# Altium integrated library Inductor.IntLib: 21 symbols
Pins are listed as number, name and electrical type; pins without a type are passive.

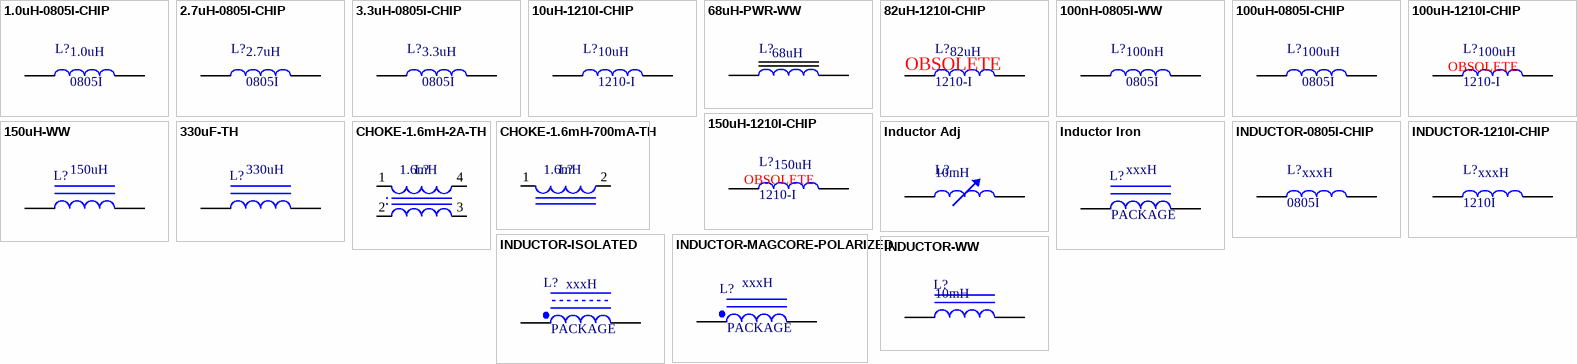
[diagram p0: symbols 1.0uH-0805I-CHIP to INDUCTOR-WW]

## 1.0uH-0805I-CHIP
designator L?, comment value 1.0uH  Package Reference: 0805I  (hidden comment: SMT Inductor, 0805 Size, 1.0uH)
Chip Inductor, 0805, 1.0uH, 10%; Manufacturer: TDK Corporation; Part Number: MLF2012A1R0KT000; DC Resistance (Max): 0.300; Q: 45 @ 10 MHz; Self Resonant Frequency: 120MHz; Core: Ferrite; Shielding: Shielded; PackageDescription: Chip inductor, SMT, 0805 size; Supplier 1: Digi-Key; Supplier Part Number 1: 445-1047-1-ND; Supplier 2: Mouser; Supplier Part Number 2: 810-MLF2012A1R0KT000
footprint 0805-I (Chip Inductor, 2-Leads, Size: 0805 (2012 Metric) Body 2.00x1.25mm, IPC Medium Density)
simulation model INDUCTOR (Inductor)
signal-integrity model Inductor
3D model 0805-I-CHIP (PCB3D Model)
pins: 1, 2

## 2.7uH-0805I-CHIP
designator L?, comment value 2.7uH  Package Reference: 0805I  (hidden comment: SMT Inductor, 0805 Size, 2.7uH)
Chip Inductor, 0805, 2.7uH, 10%; Manufacturer: TDK Corporation; Part Number: MLF2012A2R7KT000; DC Resistance (Max): 550 mOhm; Q: 45 @ 10MHz; Self Resonant Frequency: 70MHz; Core: Ferrite; Shielding: Shielded; PackageDescription: Chip Inductor, 2-Leads, Size: 0805 (2012 Metric) Body 2.00x1.25mm, IPC Medium Density; Supplier 1: Mouser; Supplier 2: Digi-Key; Supplier Part Number 1: 810-MLF2012A2R7KTD25; Supplier Part Number 2: 445-1052-1-ND
footprint 0805-I (Chip Inductor, 2-Leads, Size: 0805 (2012 Metric) Body 2.00x1.25mm, IPC Medium Density)
simulation model INDUCTOR (Inductor)
signal-integrity model Inductor
3D model 0805-I-CHIP (PCB3D Model)
pins: 1, 2

## 3.3uH-0805I-CHIP
designator L?, comment value 3.3uH  Package Reference: 0805I  (hidden comment: SMT Inductor, 0805 Size, 3.3uH)
Chip Inductor, 0805, 3.3uH, 10%; Manufacturer: TDK Corporation; Part Number: MLF2012A3R3KT000; DC Resistance (Max): 0.600; Q: 45 @ 10MHz; Self Resonant Frequency: 60MHz; Core: Ferrite; Shielding: Shielded; PackageDescription: Chip inductor, SMT, 0805 size; Supplier 1: Digi-Key; Supplier 2: Mouser; Supplier Part Number 1: 445-1053-1-ND; Supplier Part Number 2: N/A
footprint 0805-I (Chip Inductor, 2-Leads, Size: 0805 (2012 Metric) Body 2.00x1.25mm, IPC Medium Density)
simulation model INDUCTOR (Inductor)
signal-integrity model Inductor
3D model 0805-I-CHIP (PCB3D Model)
pins: 1, 2

## 10uH-1210I-CHIP
designator L?, comment value 10uH  Package Reference: 1210-I  (hidden comment: SMT Inductor, 1210 Size, 10uHH)
Chip Inductor, 1210, 10uH, Wirewound, Ferrite Core; Manufacturer: TDK Corporation; Part Number: NLCV32T-100K-PFR; DC Resistance (Max): 1.9; Q: 20 @ 2.52MHz; Self Resonant Frequency: 28MHz; Shielding: Shielded; PackageDescription: Chip inductor, SMT, 1210 size; Supplier 1: Digi-Key; Supplier 2: Mouser; Supplier Part Number 1: 445-3654-1-ND; Supplier Part Number 2: 810-NLCV32T-100K-PFR; Core: Ferrite
footprint 1210-I (Chip Inductor, Size: 1210 (3225 Metric) Body 3.2x2.5mm, IPC Medium Density)
simulation model INDUCTOR (Inductor)
signal-integrity model Inductor
3D model 1210-I-CHIP (PCB3D Model)
pins: 1, 2

## 68uH-PWR-WW
designator L?, comment value 68uH  (hidden comment: SD8350-680-R)
Power Inductor, SMT, Non-standard size (9.5mmx8.3mm), 100kHz, 68uH, Wirewound; Manufacturer: Eaton Bussmann; DC Resistance (Max): 240 mOhm; Core: Ferrite; Shielding: Shielded; PackageDescription: Chip inductor, SMT, 1210 size; Q: -; Self Resonant Frequency: -; Package Reference: Non-standard (9.5mmx8.3mm); Part Number: SD8350-680-R; Supplier 1: Digi-Key; Supplier Part Number 1: 513-1506-1-ND; Supplier 2: Mouser; Supplier Part Number 2: 704-SD8350-680-R
footprint IND-9.5x8.3 (Wire Wound Power Inductor,  2-Leads, size: Body 9.5mmx8.3mm)
simulation model INDUCTOR (Inductor)
signal-integrity model Inductor
pins: 1, 2

## 82uH-1210I-CHIP
designator L?, comment value 82uH  Package Reference: 1210-I  (hidden comment: SMT Inductor, 1210 Size, 82uH)
Chip Inductor, 1210, 82uH,; Manufacturer: Panasonic Electronic Components; Part Number: ELJ-SA820KF; DC Resistance (Max): 6.0; Q: 40 @ 1.5MHz; Self Resonant Frequency: 11MHz; Shielding: Shielded; PackageDescription: Chip inductor, SMT, 1210 size; Supplier 1: Digi-Key; Supplier 2: Mouser; Supplier Part Number 1: PCD1108CT-ND; Supplier Part Number 2: 667-ELJ-SA820KF; Core: -
footprint 1210-I (Chip Inductor, Size: 1210 (3225 Metric) Body 3.2x2.5mm, IPC Medium Density)
3D model 1210-I-CHIP (PCB3D Model)
pins: 1, 2
text: OBSOLETE

## 100nH-0805I-WW
designator L?, comment value 100nH  Package Reference: 0805I  (hidden comment: SMT Inductor, 0805 Size, 100nH)
Wire-wound Inductor, 0805, 100nH, 5%; Manufacturer: EPCOS (TDK); Part Number: B82498F3101J; DC Resistance (Max): 0.280; Q: 55 @ 500MHz; Self Resonant Frequency: 1.35GHz; Core: Ceramic; Shielding: Unshielded; PackageDescription: Chip inductor, SMT, 0805 size; Supplier 1: Arrow; Supplier 2: Mouser; Supplier 3: Digi-Key; Supplier Part Number 1: B82498F3101J001; Supplier Part Number 2: 871-B82498F3101J; Supplier Part Number 3: 495-1849-1-ND
footprint 0805-I (Chip Inductor, 2-Leads, Size: 0805 (2012 Metric) Body 2.00x1.25mm, IPC Medium Density)
simulation model INDUCTOR (Inductor)
signal-integrity model Inductor
3D model 0805-I-CHIP-WIRE (PCB3D Model)
pins: 1, 2

## 100uH-0805I-CHIP
designator L?, comment value 100uH  Package Reference: 0805I  (hidden comment: SMT Inductor, 0805 Size, 10uH)
Chip Inductor, 0805, 100uH, 10%; Manufacturer: TDK Corporation; Part Number: MLF2012C101KT000; DC Resistance (Max): 3.1; Q: 25 @ 1MHz; Self Resonant Frequency: 7MHz; Core: Ferrite; Shielding: Shielded; PackageDescription: Chip inductor, SMT, 0805 size; Supplier 1: Arrow; Supplier 2: Digi-Key; Supplier Part Number 1: MLF2012C101KT000; Supplier Part Number 2: 445-1071-1-ND
footprint 0805-I (Chip Inductor, 2-Leads, Size: 0805 (2012 Metric) Body 2.00x1.25mm, IPC Medium Density)
simulation model INDUCTOR (Inductor)
signal-integrity model Inductor
3D model 0805-I-CHIP (PCB3D Model)
pins: 1, 2

## 100uH-1210I-CHIP
designator L?, comment value 100uH  Package Reference: 1210-I  (hidden comment: SMT Inductor, 1210 Size, 100uH)
Chip Inductor, 1210, 100uH,; Manufacturer: Panasonic Electronic Components; Part Number: ELJ-SA101KF; DC Resistance (Max): 7.0; Q: 40 @ 1.5MHz; Self Resonant Frequency: 10MHz; Shielding: Shielded; PackageDescription: Chip inductor, SMT, 1210 size; Supplier 1: Digi-Key; Supplier 2: Mouser; Supplier Part Number 1: PCD1109DKR-ND; Supplier Part Number 2: 667-ELJ-SA101KF; Core: -
footprint 1210-I (Chip Inductor, Size: 1210 (3225 Metric) Body 3.2x2.5mm, IPC Medium Density)
3D model 1210-I-CHIP (PCB3D Model)
pins: 1, 2
text: OBSOLETE

## 150uH-1210I-CHIP
designator L?, comment value 150uH  Package Reference: 1210-I  (hidden comment: SMT Inductor, 1210 Size, 150uH)
Chip Inductor, 1210, 150uH,; Manufacturer: Panasonic Electronic Components; Part Number: ELJ-SA151KF; DC Resistance (Max): 9.0; Q: 40 @ 1.5MHz; Self Resonant Frequency: 5MHz; Shielding: Shielded; PackageDescription: Chip inductor, SMT, 1210 size; Supplier 1: Digi-Key; Supplier 2: Mouser; Supplier Part Number 1: PCD1111CT-ND; Supplier Part Number 2: 667-ELJ-SA151KF; Core: -
footprint 1210-I (Chip Inductor, Size: 1210 (3225 Metric) Body 3.2x2.5mm, IPC Medium Density)
3D model 1210-I-CHIP (PCB3D Model)
pins: 1, 2
text: OBSOLETE

## 150uH-WW
designator L?, comment value 150uH  (hidden comment: UP2B-151-R)
150uH Wire Wound Power Inductor; Manufacturer: Eaton Bussmann; DC Resistance (Max): 0.410; Core: Ferrite; Shielding: Unshielded; PackageDescription: Axial Device, Thru-Hole; 2 Leads; 0.9 in Pin Spacing; Supplier 1: Digi-Key; Supplier 2: Mouser; Supplier Part Number 1: 513-1077-1-ND; Supplier Part Number 2: 704-UP2B-151-R; Package Reference: UP2B size (Non Standard); Q: -; Self Resonant Frequency: -; Part Number: UP2B-151-R
footprint UP2B-I (Precision Wire Wound Inductor,  2-Leads, UP2B size: Body 13.75x10.38mm, IPC Medium Density)
simulation model INDUCTOR (Inductor)
signal-integrity model Inductor Iron
pins: 1, 2

## 330uF-TH
designator L?, comment value 330uH  (hidden comment: 330uH Ferrite Core Inductor)
Ferrite-Core Inductor, TH, 330uH; Manufacturer: Vishay Dale; Part Number: IHD3EB331L; DC Resistance (Max): 0.257; Shielding: Unshielded; PackageDescription: Inductor, TH, 11.68mm x 22.86mm, 20 AWG; Package Reference: IHD3 Series-330; Supplier 1: Digi-Key; Supplier Part Number 1: 541-1466-ND; Supplier 2: Mouser; Supplier Part Number 2: 70-IHD3EB331L; Core: Ferrite; Q: -; Self Resonant Frequency: -
simulation model INDUCTOR (Inductor)
signal-integrity model Inductor Iron
footprint IHD3 Series-330 (Inductor, TH, 11.68mm x 22.86mm, 20 AWG)
pins: 1, 2

## CHOKE-1.6mH-2A-TH
designator L?, comment value 1.6mH  (hidden comment: 7448012002)
Choke, TH, 1.6mH, 2A, vertical, Power Line Filter; Manufacturer: Wurth Electronics Inc.; DC Resistance (Max): 90 mOhm; Shielding: Unshielded; Part Number: 7448012002; Supplier 1: Newark; Supplier Part Number 1: 75X1211; Supplier 2: Mouser; Supplier Part Number 2: 710-7448012002; Supplier 3: Digi-Key; Supplier Part Number 3: 732-5577-ND; PackageDescription: WE-CMBNC Series Chokes, Vertical, TH, 4 PC Pin; Package Reference: WE-CMBNC; Core: -; Q: -; Self Resonant Frequency: -
footprint WE-CMBNC (WE-CMBNC Series Chokes, Vertical, TH, 4 PC Pin)
pins: 1, 2, 3, 4

## CHOKE-1.6mH-700mA-TH
designator L?, comment value 1.6mH  (hidden comment: 11PHC-162K-50)
Inductor, TH, 1.6mH, 700mA, vertical; Manufacturer: Fastron; Shielding: Unshielded; Core: Ferrite; DC Resistance (Max): 2.5 Ohm; PackageDescription: 11PHC Series Radial Inductor, Fastron, 5mm lead spacing; Part Number: 11PHC-162K-50; Supplier 1: Mouser; Supplier Part Number 1: 434-11PHC-162K; Package Reference: 11PHC-5mm; Q: -; Self Resonant Frequency: -
footprint 11PHC-5mm (11PHC Series Radial Inductor, Fastron, 5mm lead spacing)
pins: 1, 2

## Inductor Adj
designator L?  value 10mH  (hidden comment: Inductor Adj)
Adjustable Inductor; Set Position: 0.5; Package Reference: AXIAL-0.8; PackageDescription: Axial Device, Thru-Hole; 2 Leads; 0.8 in Pin Spacing; DC Resistance (Max): *
footprint AXIAL-0.8 (Axial Device, Thru-Hole; 2 Leads; 0.8 in Pin Spacing)
pins: 1, 2

## Inductor Iron
designator L?  value xxxH  Package Reference: PACKAGE  (hidden comment: Inductor Iron)
Magnetic-Core Inductor; PackageDescription: Axial Device, Thru-Hole; 2 Leads; 0.9 in Pin Spacing; DC Resistance (Max): *
footprint 0805-I (Chip Inductor, 2-Leads, Size: 0805 (2012 Metric) Body 2.00x1.25mm, IPC Medium Density)
pins: 1, 2

## INDUCTOR-0805I-CHIP
designator L?, comment value xxxH  Package Reference: 0805I  (hidden comment: SMT Inductor, 0805 Size, xxsxH)
Chip Inductor, 0805, xxxH, x%; PackageDescription: Chip inductor, SMT, 0805 size; Q: *; Self Resonant Frequency: *
footprint 0805-I (Chip Inductor, 2-Leads, Size: 0805 (2012 Metric) Body 2.00x1.25mm, IPC Medium Density)
3D model 0805-I-CHIP (PCB3D Model)
pins: 1, 2

## INDUCTOR-1210I-CHIP
designator L?, comment value xxxH  Package Reference: 1210I  (hidden comment: SMT Inductor, 1210 Size, xxsxH)
Chip Inductor, 1210, Frequency, xxxH,; PackageDescription: Chip inductor, SMT, 1210 size; Q: *; Self Resonant Frequency: *
footprint 1210-I (Chip Inductor, Size: 1210 (3225 Metric) Body 3.2x2.5mm, IPC Medium Density)
3D model 1210-I-CHIP (PCB3D Model)
pins: 1, 2

## INDUCTOR-ISOLATED
designator L?  value xxxH  Package Reference: PACKAGE  (hidden comment: INDUCTOR-ISOLATED)
Isolated Inductor; PackageDescription: SOD-123; 2 Leads; Body 2.7 x 1.6 mm, (LxW); DC Resistance (Max): *
footprint 425 (SOD-123; 2 Leads; Body 2.7 x 1.6 mm, (LxW))
pins: 1, 2

## INDUCTOR-MAGCORE-POLARIZED
designator L?  value xxxH  PackageDescription: PACKAGE  (hidden comment: INDUCTOR-MAGCORE-POLARIZED)
Magnetic-Core Inductor with Winding Polarity Marking; Package Reference: DIODE_SMC; DC Resistance (Max): *
footprint 1210-I (Chip Inductor, Size: 1210 (3225 Metric) Body 3.2x2.5mm, IPC Medium Density)
pins: 1, 2

## INDUCTOR-WW
designator L?  value 10mH  (hidden comment: INDUCTOR-WW)
Magnetic-Core Inductor; Package Reference: AXIAL-0.9; PackageDescription: Axial Device, Thru-Hole; 2 Leads; 0.9 in Pin Spacing; DC Resistance (Max): *
footprint AXIAL-0.9 (Axial Device, Thru-Hole; 2 Leads; 0.9 in Pin Spacing)
simulation model INDUCTOR (Inductor)
pins: 1, 2